# Altium footprint library S8050.PcbLib: 1 footprints
Each footprint in its own frame and in the unit in brackets; x right, y up, seen from the top. Pads: shape width x height; smd on the part's side, far side on the other; paste and mask are expansions set on the pad; w line width, h text height; cw(c..) or ccw(c..) is an arc to the next point about the centre after c.
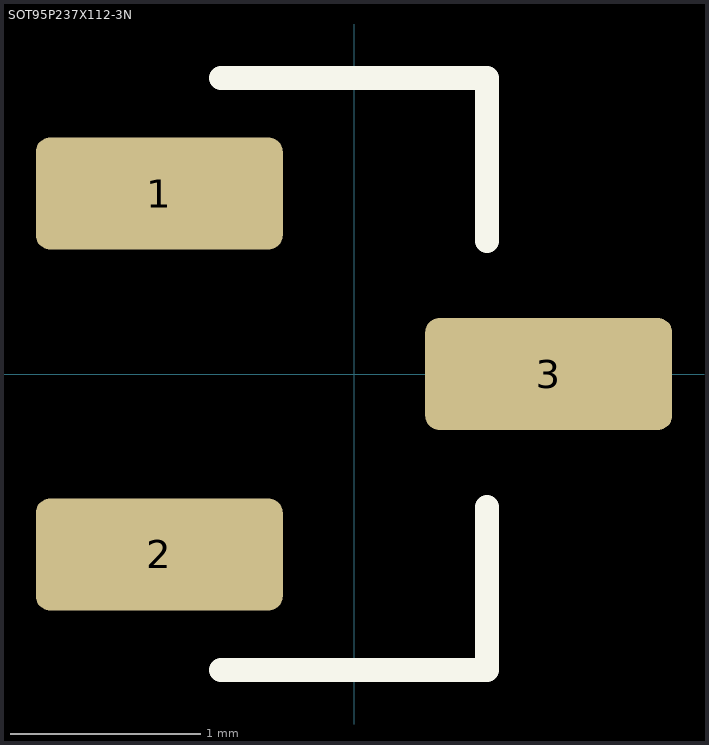
[diagram p0: the footprint, top view; thin cyan lines are the x and y axes]

## SOT95P237X112-3N [mm]
pads (3):
  rrect25% 1.3x0.59 smd: 1(-1.025,0.95) 2(-1.025,-0.95) 3(1.025,0)
Top Overlay:
  lines w0.127: -0.7,-1.559 0.7,-1.559 0.7,-0.7 ; -0.7,1.559 0.7,1.559 0.7,0.7
3D body "step_temp.STEP": height 1.12, standoff 0, extent -1.185,-1.46 1.185,1.46